# Altium schematic symbol library Cmos.SchLib: 1 symbol
Pins are listed as number, name and electrical type; pins without a type are passive.

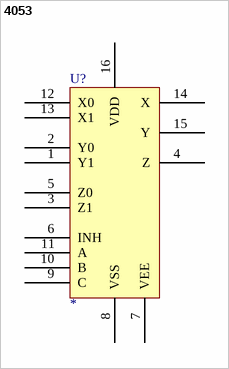
[diagram p0: symbol 4053]

## 4053
designator U?
footprint 16SOIC150
footprint 16DIP300
pins: 1 Y1, 2 Y0, 3 Z1, 4 Z, 5 Z0, 6 INH, 7 VEE, 8 VSS, 9 C, 10 B, 11 A, 12 X0, 13 X1, 14 X, 15 Y, 16 VDD